# Altium schematic symbol library TinyShuffle v.0.SCHLIB: 55 symbols
Pins are listed as number, name and electrical type; pins without a type are passive.

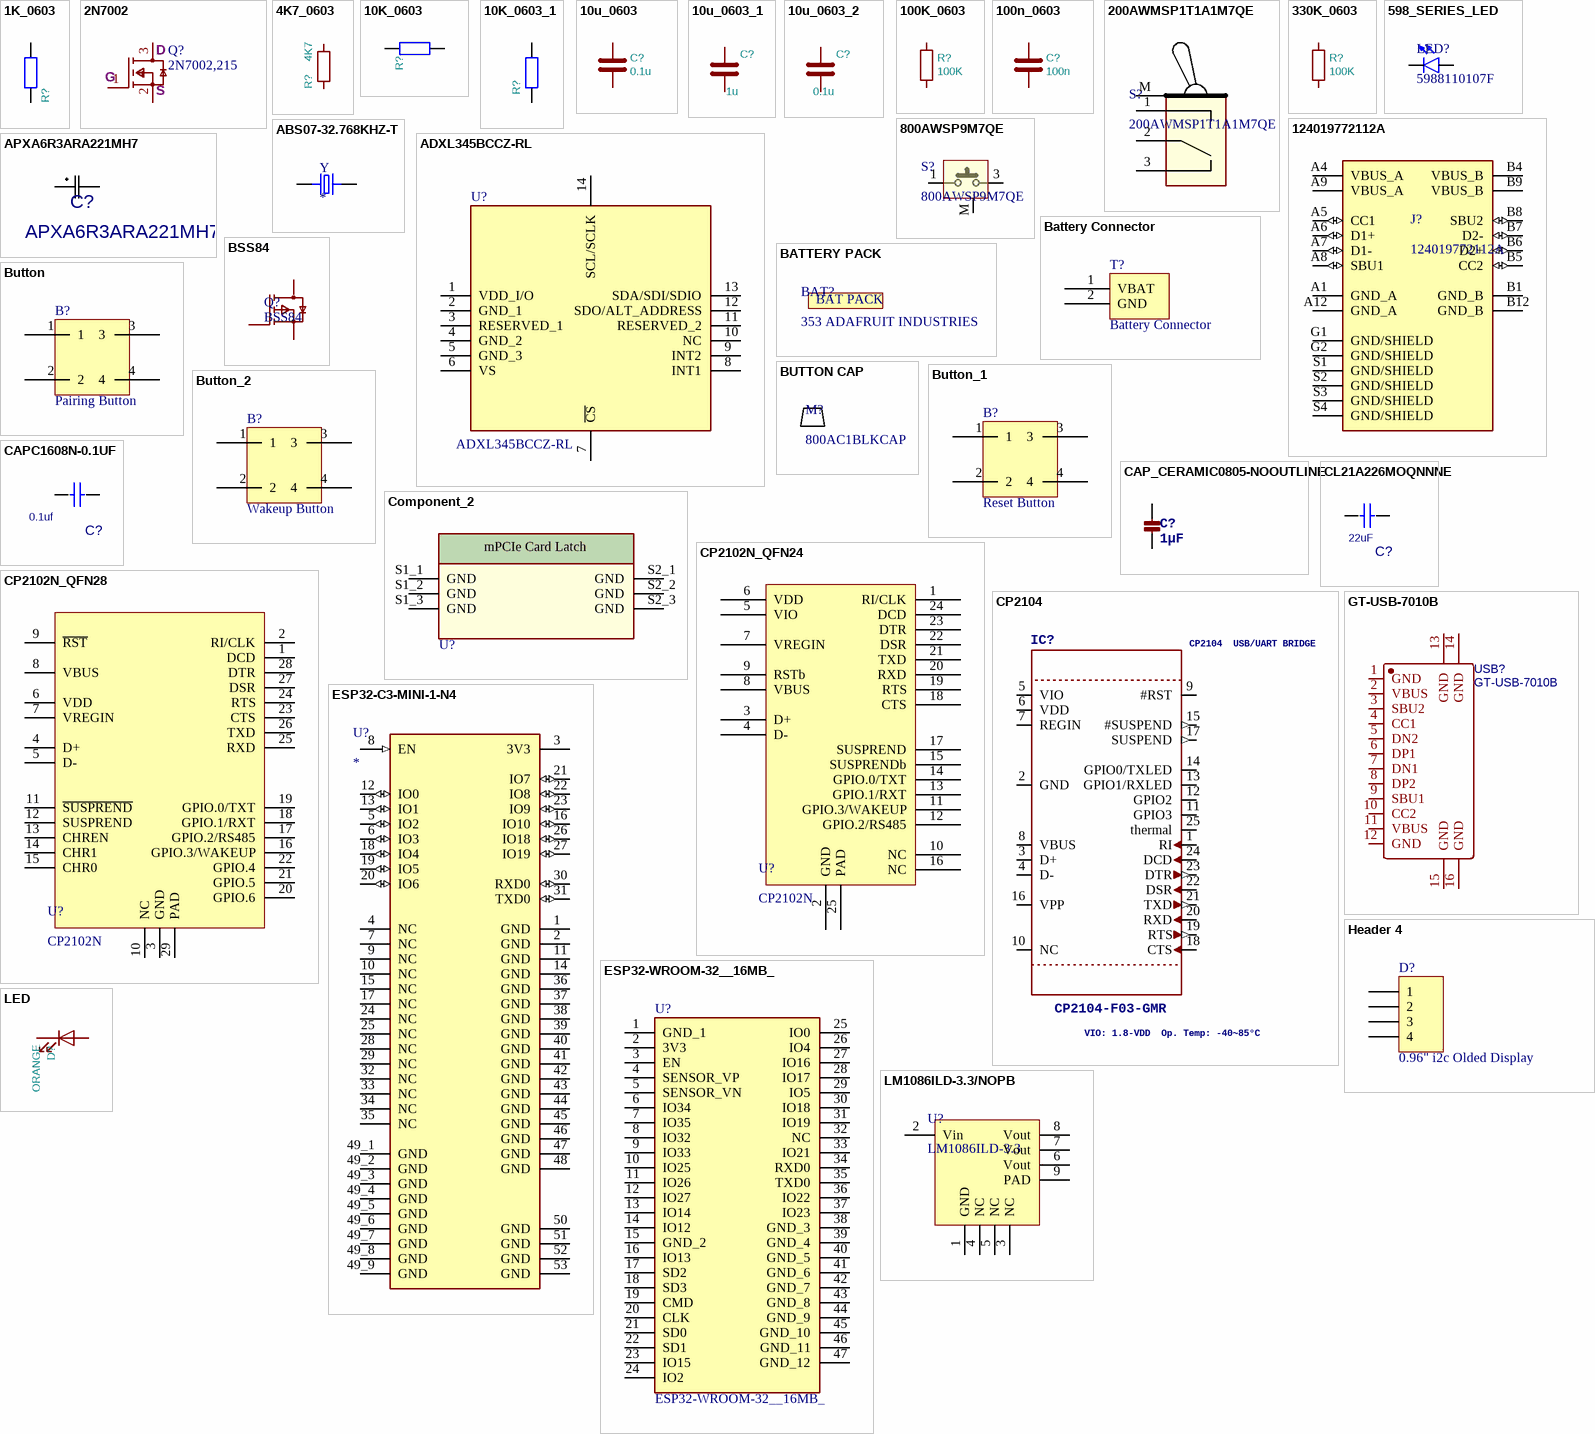
[diagram p0: symbols 1K_0603 to LM1086ILD-3.3/NOPB]

## 1K_0603
designator R?, comment 1K  (value not drawn)
Manufacturer_Part_Number: CRCW06031K00FKEAHP; Generic Part: no; Manufacturer: Vishay; Footprint: Resistor_SMD:R_0603_1608Metric; LCSC Part Number: *
footprint RES0603
pins: 1, 2

## 2N7002
designator Q?, comment 2N7002,215
footprint SOT96P237X111-3N
pins: 1 G, 2 S, 3 D1
text: D

## 4K7_0603
designator R?, comment 4K7
Part Number: CRCW06034K70FKEAHP; Generic Part: no; Manufacturer: Vishay; Footprint: Resistor_SMD:R_0603_1608Metric; Value: 4K7
footprint RES0603
pins: 1, 2

## 10K_0603
designator R?, comment 10K  (value not drawn)
Manufacturer_Part_Number: CRCW060310K0FKEAHP; Generic Part: no; Manufacturer: Vishay; Footprint: Resistor_SMD:R_0603_1608Metric; LCSC Part Number: *
footprint RES0603
pins: 1, 2

## 10K_0603_1
designator R?, comment 4k7 0603  (value not drawn)
Part Number: CRCW060310K0FKEAHP; Generic Part: no; Manufacturer: Vishay; Footprint: Resistor_SMD:R_0603_1608Metric; LCSC Part Number: *
footprint RES0603
pins: 1, 2

## 10u_0603
designator C?, comment value 0.1u  (hidden comment: 1u)
Part Number: C0603C106M9PACTU; Generic Part: no; Manufacturer: KEMET; Footprint: Capacitor_SMD:C_0603_1608Metric; LCSC Part Number: *
footprint 0603 Capacitor
pins: 1, 2

## 10u_0603_1
designator C?, comment value 1u  (hidden comment: 10u)
Part Number: C0603C106M9PACTU; Generic Part: no; Manufacturer: KEMET; Footprint: Capacitor_SMD:C_0603_1608Metric; LCSC Part Number: *
footprint 0603 Capacitor
pins: 1, 2

## 10u_0603_2
designator C?, comment value 0.1u  (hidden comment: 0.1uF)
Part Number: C0603C106M9PACTU; Generic Part: no; Manufacturer: KEMET; Footprint: Capacitor_SMD:C_0603_1608Metric; LCSC Part Number: *
footprint 0603 Capacitor
pins: 1, 2

## 100K_0603
designator R?, comment 100K
Part Number: CRCW0603100KFKEAHP; Generic Part: no; Manufacturer: Vishay; Footprint: Resistor_SMD:R_0603_1608Metric; Value: 100K
footprint RES0603
pins: 1, 2

## 100n_0603
designator C?, comment 100n
Part Number: C0603C104J5RACTU; Generic Part: no; Manufacturer: KEMET; Footprint: Capacitor_SMD:C_0603_1608Metric; LCSC Part Number: *; Value: 100n
footprint 0603 Capacitor
pins: 1, 2

## 200AWMSP1T1A1M7QE
designator S?
SWITCH TOGGLE SPDT 3A 120V
footprint 200AWMSP1T1A1M7QE (SWITCH TOGGLE SPDT 3A 120V)
pins: 1, 2, 3, M

## 330K_0603
designator R?, comment value 100K  (hidden comment: 330K)
Part Number: CRCW0603330KFKEAHP; Generic Part: no; Manufacturer: Vishay; Footprint: Resistor_SMD:R_0603_1608Metric
footprint RES0603
pins: 1, 2

## 598_SERIES_LED
designator LED?, comment 5988110107F
Red 635nm LED Indication - Discrete 2.2V 0805 _2012 Metric_; MP: 598-8110-107F; MF: Dialight; SnapEDA_Link: https://www.snapeda.com/parts/598-8110-107F/Dialight/view-part/275124/?ref=snap; Price: None; Package: 0805 Dialight; Availability: Unavailable; Value: *
footprint LEDC2012X70N
pins: A, C

## 800AWSP9M7QE
designator S?
Pushbutton Switch SPST-NO Standard Through Hole, Right Angle, Vertical
footprint 800AWSP9M7QE (SWITCH PUSH SPST-NO 1A 120V)
pins: 1, 3, M

## 124019772112A
designator J?
USB2.0, TOP MOUNT, R/A, 16 PIN, DUAL; MF: Amphenol Commercial Products; Value: *; Availability: Bad; Check_prices: https://www.snapeda.com/parts/124019772112A/Amphenol/view-part/4792123/?ref=eda; SnapEDA_Link: https://www.snapeda.com/parts/124019772112A/Amphenol/view-part/4792123/?ref=snap; Package: None; MP: 124019772112A; Price: None
footprint AMPHENOL_124019772112A
pins: A1 GND_A (power), A4 VBUS_A (power), A5 CC1 (io), A6 D1+ (io), A7 D1- (io), A8 SBU1 (io), A9 VBUS_A (power), A12 GND_A (power), B1 GND_B (power), B4 VBUS_B (power), B5 CC2 (io), B6 D2+ (io), B7 D2- (io), B8 SBU2 (io), B9 VBUS_B (power), B12 GND_B (power), G1 GND/SHIELD (power), G2 GND/SHIELD (power), S1 GND/SHIELD (power), S2 GND/SHIELD (power), S3 GND/SHIELD (power), S4 GND/SHIELD (power)

## ABS07-32.768KHZ-T
designator Y
32.768kHz Â±20ppm Crystal 12.5pF 70 kOhms 2-SMD, No Lead; MF: Abracon LLC; MP: ABS07-32.768KHZ; Price: None; Value: *; Package: SMD-2 Abracon; Availability: Unavailable; SnapEDA_Link: https://www.snapeda.com/parts/ABS07-32.768KHZ/Abracon%20LLC/view-part/448682/?ref=snap
footprint XTAL_ABS07-32.768KHZ-T
pins: 1, 2

## ADXL345BCCZ-RL
designator U?
Integrated Circuit; Manufacturer_Name: Analog Devices; Datasheet Link: https://www.analog.com/media/en/technical-documentation/data-sheets/ADXL345.pdf; Height: 1mm; Manufacturer_Part_Number: ADXL345BCCZ-RL; Mouser Part Number: 584-ADXL345BCCZ-R; Mouser Price/Stock: https://www.mouser.co.uk/ProductDetail/Analog-Devices/ADXL345BCCZ-RL?qs=WIvQP4zGangSXrz9XHbgiA%3D%3D; Arrow Part Number: ADXL345BCCZ-RL; Arrow Price/Stock: https://www.arrow.com/en/products/adxl345bccz-rl/analog-devices?region=nac
footprint ADXL345BCCZRL
pins: 1 VDD_I/O, 2 GND_1, 3 RESERVED_1, 4 GND_2, 5 GND_3, 6 VS, 7 ~{CS}, 8 INT1, 9 INT2, 10 NC, 11 RESERVED_2, 12 SDO/ALT_ADDRESS, 13 SDA/SDI/SDIO, 14 SCL/SCLK

## APXA6R3ARA221MH7
designator C?
Mfr_Name: Nippon Chemi-Con; Manufacturer_Part_Number: APXA6R3ARA221MH70G; C: Copyright (C) 2015 Accelerated Designs. All rights reserved; Copyright: Copyright (C) 2022 Ultra Librarian. All rights reserved.; Digi-Key_Part_Number_1: 565-3114-1-ND; Digi-Key_Part_Number_2: 565-3114-2-ND; Digi-Key_Part_Number_3: 565-3114-2-NDL; Digi-Key_Part_Number_4: 565-3114-6-ND; Value: APXA6R3ARA221MH7
footprint CHEMI-H70
pins: 1, 2
1 alternate drawing of the same symbol

## Battery Connector
designator T?
footprint Battery Connector
pins: 1 VBAT, 2 GND

## BATTERY PACK
designator BAT?, comment 353 ADAFRUIT INDUSTRIES  (mechanical)
18650 1S3P PATTERY, JST PH Connector
footprint 353 ADAFRUIT BAT (18650 1S3P BATTERY PACK 18X70X54)
text: BAT PACK

## BSS84
designator Q?
footprint SOT96P237X111-3N
pins: 1 G, 2 S, 3 D

## Button
designator B?, comment Pairing Button
Manufacturer_Part_Number: KMR221NGLFS; LCSC Part Number: C269272
footprint KMR221NGLFS
pins: 1, 2, 3, 4

## BUTTON CAP
designator M?, comment 800AC1BLKCAP  (mechanical)
Round Pushbutton Switch Cap Black Snap Fit
footprint BUTTON CUP (800AC1BLKCAP)

## Button_1
designator B?, comment Reset Button
Manufacturer_Part_Number: KMR221NGLFS; LCSC Part Number: C269272
footprint KMR221NGLFS
pins: 1, 2, 3, 4

## Button_2
designator B?, comment Wakeup Button
Manufacturer_Part_Number: KMR221NGLFS; LCSC Part Number: C269272
footprint KMR221NGLFS
pins: 1, 2, 3, 4

## CAP_CERAMIC0805-NOOUTLINE
designator C?, comment 1µF
Ceramic Capacitors   For new designs, use the packages preceded by an '_' character since they are more reliable:   The following footprints should be used on most boards: _0402 - Standard footprint for regular board layouts  _0603 - Standard footprint for regular board layouts  _0805 - Standard footprint for regular board layouts  _1206 - Standard footprint for regular board layouts       For extremely tight-pitch boards where space is at a premium, the following 'micro-pitch' footprints can be used (smaller pads, no silkscreen outline, etc.): _0402MP - Micro-pitch footprint for very dense/compact boards  _0603MP - Micro-pitch footprint for very dense/compact boards  _0805MP - Micro-pitch footprint for very dense/compact boards  _1206MP - Micro-pitch footprint for very dense/compact boards; COMPANY: ADAFRUIT INDUSTRIES; DRAWN: KTOWN; REV: B; LCSC Part Number: *; Manufacturer_Part_Number: *
footprint 0603 Capacitor
pins: 1, 2

## CAPC1608N-0.1UF
designator C?  value 0.1uf  (hidden comment: CAPC1608N-0.1UF)
CAP CER 0.1UF 25V X7R 0603; Manufacturer_Name: TDK Corporation; Manufacturer_Part_Number: CGA3E2X7R1E104K080AA; PCB DECAL: CAPC1608X55N; Mouser Part Number: 963-TMF212B7104KGHT; Mouser Price/Stock: https://www2.mouser.com/ProductDetail/Taiyo-Yuden/TMF212B7104KGHT?qs=%252B6g0mu59x7Jv7XISa3hIWA%3D%3D; LCSC Part Number: *
footprint 0603 Capacitor
pins: 1, 2

## CL21A226MOQNNNE
designator C?  value 22uF  (hidden comment: CL21A226MOQNNNE)
CAP CER 22UF 16V X5R 0805; Manufacturer_Name: Samsung Electro-Mechanics; Tolerance: ±20%; Manufacturer_Part_Number: CL21A226MOQNNNE; Voltage - Rated: 16V; Temperature Coefficient: X5R; Operating Temperature: -55°C ~ 85°C; Package / Case: 0805 (2012 Metric); ComponentLink1Description: Datasheet; ComponentLink1URL: https://media.digikey.com/pdf/Data%20Sheets/Samsung%20PDFs/CL21A226MOQNNNE_Spec.pdf; ComponentLink2Description: Digikey; ComponentLink2URL: https://www.digikey.com/en/products/detail/samsung-electro-mechanics/CL21A226MOQNNNE/3888567
footprint CAPC2012X135N
pins: 1, 2

## Component_2
designator U?  (value not drawn)
footprint m.2
pins: S1_1 GND (power), S1_2 GND (power), S1_3 GND (power), S2_1 GND (power), S2_2 GND (power), S2_3 GND (power)
text: mPCIe Card Latch

## CP2102N_QFN24
designator U?, comment CP2102N
IC USB TO UART BRIDGE QFN24; ManufacturerPartNumber: CP2102N-A02-GQFN24; Manufacturer: Silicon Labs
pins: 1 RI/CLK, 2 GND, 3 D+, 4 D-, 5 VIO, 6 VDD, 7 VREGIN, 8 VBUS, 9 RSTb, 10 NC, 11 GPIO.3/WAKEUP, 12 GPIO.2/RS485, 13 GPIO.1/RXT, 14 GPIO.0/TXT, 15 SUSPRENDb, 16 NC, 17 SUSPREND, 18 CTS, 19 RTS, 20 RXD, 21 TXD, 22 DSR, 23 DTR, 24 DCD, 25 PAD

## CP2102N_QFN28
designator U?, comment CP2102N
IC USB TO UART BRIDGE QFN28; ManufacturerPartNumber: CP2102N-A02-GQFN28R; Manufacturer: Silicon Labs
footprint QFN-28 (QFN, 28-Leads, Body 5,00x5,00mm, Pitch 0,50mm, Thermal Pad 3,20x3,20mm, IPC High Density)
pins: 1 DCD, 2 RI/CLK, 3 GND, 4 D+, 5 D-, 6 VDD, 7 VREGIN, 8 VBUS, 9 ~{RST}, 10 NC, 11 ~{SUSPREND}, 12 SUSPREND, 13 CHREN, 14 CHR1, 15 CHR0, 16 GPIO.3/WAKEUP, 17 GPIO.2/RS485, 18 GPIO.1/RXT, 19 GPIO.0/TXT, 20 GPIO.6, 21 GPIO.5, 22 GPIO.4, 23 CTS, 24 RTS, 25 RXD, 26 TXD, 27 DSR, 28 DTR, 29 PAD

## CP2104
designator IC?, comment CP2104-F03-GMR  CP2104
USB/UARTBRIDGE: CP2104 / USB/UART BRIDGE  VIO:1.8-VDD
Op.Temp:-40~85°C: VIO: 1.8-VDD / Op. Temp: -40~85°C
CP2104 - USB to UART Bridge    VDD Output: 3.45V; COMPANY: ADAFRUIT INDUSTRIES; DRAWN: KTOWN; REV: B; LCSC Part Number: C47742; Manufacturer_Part_Number: CP2104-F03-GMR
footprint cp2104
pins: 1 RI, 2 GND (power), 3 D+, 4 D-, 5 VIO (power), 6 VDD (power), 7 REGIN (power), 8 VBUS (power), 9 #RST, 10 NC, 11 GPIO3, 12 GPIO2, 13 GPIO1/RXLED, 14 GPIO0/TXLED, 15 #SUSPEND (out), 16 VPP, 17 SUSPEND (out), 18 CTS, 19 RTS (out), 20 RXD, 21 TXD (out), 22 DSR, 23 DTR (out), 24 DCD, 25 thermal

## ESP32-C3-MINI-1-N4
designator U?
Bluetooth, WiFi 802.11b/g/n, Bluetooth v5.0 Transceiver Module 2.412GHz ~ 2.484GHz PCB Trace Surface Mount; MF: Espressif Systems; MP: ESP32-C3-MINI-1-N4; Purchase-URL: https://pricing.snapeda.com/search/part/ESP32-C3-MINI-1-N4/?ref=eda; Value: *; Package: SMD-53 Espressif Systems; Check_prices: https://www.snapeda.com/parts/ESP32-C3-MINI-1-N4/Espressif+Systems/view-part/?ref=eda; Price: None; Availability: In Stock; SnapEDA_Link: https://www.snapeda.com/parts/ESP32-C3-MINI-1-N4/Espressif+Systems/view-part/?ref=snap
footprint XCVR_ESP32-C3-MINI-1-N4
pins: 1 GND (power), 2 GND (power), 3 3V3 (power), 4 NC, 5 IO2 (io), 6 IO3 (io), 7 NC, 8 EN (in), 9 NC, 10 NC, 11 GND (power), 12 IO0 (io), 13 IO1 (io), 14 GND (power), 15 NC, 16 IO10 (io), 17 NC, 18 IO4 (io), 19 IO5 (io), 20 IO6 (io), 21 IO7 (io), 22 IO8 (io), 23 IO9 (io), 24 NC, 25 NC, 26 IO18 (io), 27 IO19 (io), 28 NC, 29 NC, 30 RXD0 (io), 31 TXD0 (io), 32 NC, 33 NC, 34 NC, 35 NC, 36 GND (power), 37 GND (power), 38 GND (power), 39 GND (power), 40 GND (power), 41 GND (power), 42 GND (power), 43 GND (power), 44 GND (power), 45 GND (power), 46 GND (power), 47 GND (power), 48 GND (power), 49_1 GND (power), 49_2 GND (power), 49_3 GND (power), 49_4 GND (power), 49_5 GND (power), 49_6 GND (power), 49_7 GND (power), 49_8 GND (power), 49_9 GND (power), 50 GND (power), 51 GND (power), 52 GND (power), 53 GND (power)

## ESP32-WROOM-32__16MB_
designator U?
Integrated Circuit; Manufacturer_Name: Espressif Systems; Manufacturer_Part_Number: ESP32-WROOM-32 (16MB); Datasheet Link: https://www.espressif.com/sites/default/files/documentation/esp32_datasheet_en.pdf; Height: 3.2mm; Arrow Part Number: ESP32-WROOM-32 (16MB); Mouser Part Number: 356-ESPWROOM3216MB; Mouser Price/Stock: https://www.mouser.co.uk/ProductDetail/Espressif-Systems/ESP32-WROOM-32-16MB?qs=w%2Fv1CP2dgqrcPyEPuQvO1A%3D%3D; LCSC Part Number: C529578
footprint ESP32
pins: 1 GND_1, 2 3V3, 3 EN, 4 SENSOR_VP, 5 SENSOR_VN, 6 IO34, 7 IO35, 8 IO32, 9 IO33, 10 IO25, 11 IO26, 12 IO27, 13 IO14, 14 IO12, 15 GND_2, 16 IO13, 17 SD2, 18 SD3, 19 CMD, 20 CLK, 21 SD0, 22 SD1, 23 IO15, 24 IO2, 25 IO0, 26 IO4, 27 IO16, 28 IO17, 29 IO5, 30 IO18, 31 IO19, 32 NC, 33 IO21, 34 RXD0, 35 TXD0, 36 IO22, 37 IO23, 38 GND_3, 39 GND_4, 40 GND_5, 41 GND_6, 42 GND_7, 43 GND_8, 44 GND_9, 45 GND_10, 46 GND_11, 47 GND_12

## GT-USB-7010B
designator USB?
BOM_Manufacturer: G-Switch(品赞); Contributor: LCSC; BOM_Supplier: LCSC; BOM_Supplier Part: C2837092; BOM_Manufacturer Part: GT-USB-7010B; BOM_JLCPCB Part Class: Extended Part; spicePre: U; spiceSymbolName: GT-USB-7010B
footprint type c
pins: 1 GND, 2 VBUS, 3 SBU2, 4 CC1, 5 DN2, 6 DP1, 7 DN1, 8 DP2, 9 SBU1, 10 CC2, 11 VBUS, 12 GND, 13 GND, 14 GND, 15 GND, 16 GND

## Header 4
designator D?, comment 0.96" i2c Olded Display
Header, 4-Pin; LatestRevisionDate: 17-Jul-2002; LatestRevisionNote: Re-released for DXP Platform.; Publisher: Altium Limited
footprint i2c display
pins: 1, 2, 3, 4

## LED
designator D?, comment ORANGE
Generic Part: yes; Manufacturer: Kingbright; Manufacturer_Part_Number: APT1608SECK; Footprint: LED_SMD:LED_0603_1608Metric; LCSC Part Number: *; Value: ORANGE
footprint LED
pins: 1 K, 2 A

## LM1086ILD-3.3/NOPB
designator U?, comment LM1086ILD-3.3
IC REG LINEAR 3.3V 1.5A 8WSON; ManufacturerPartNumber: LM1086ILD-3.3/NOPB; Manufacturer: Texas Instruments
pins: 1 GND, 2 Vin, 3 NC, 4 NC, 5 NC, 6 Vout, 7 Vout, 8 Vout, 9 PAD

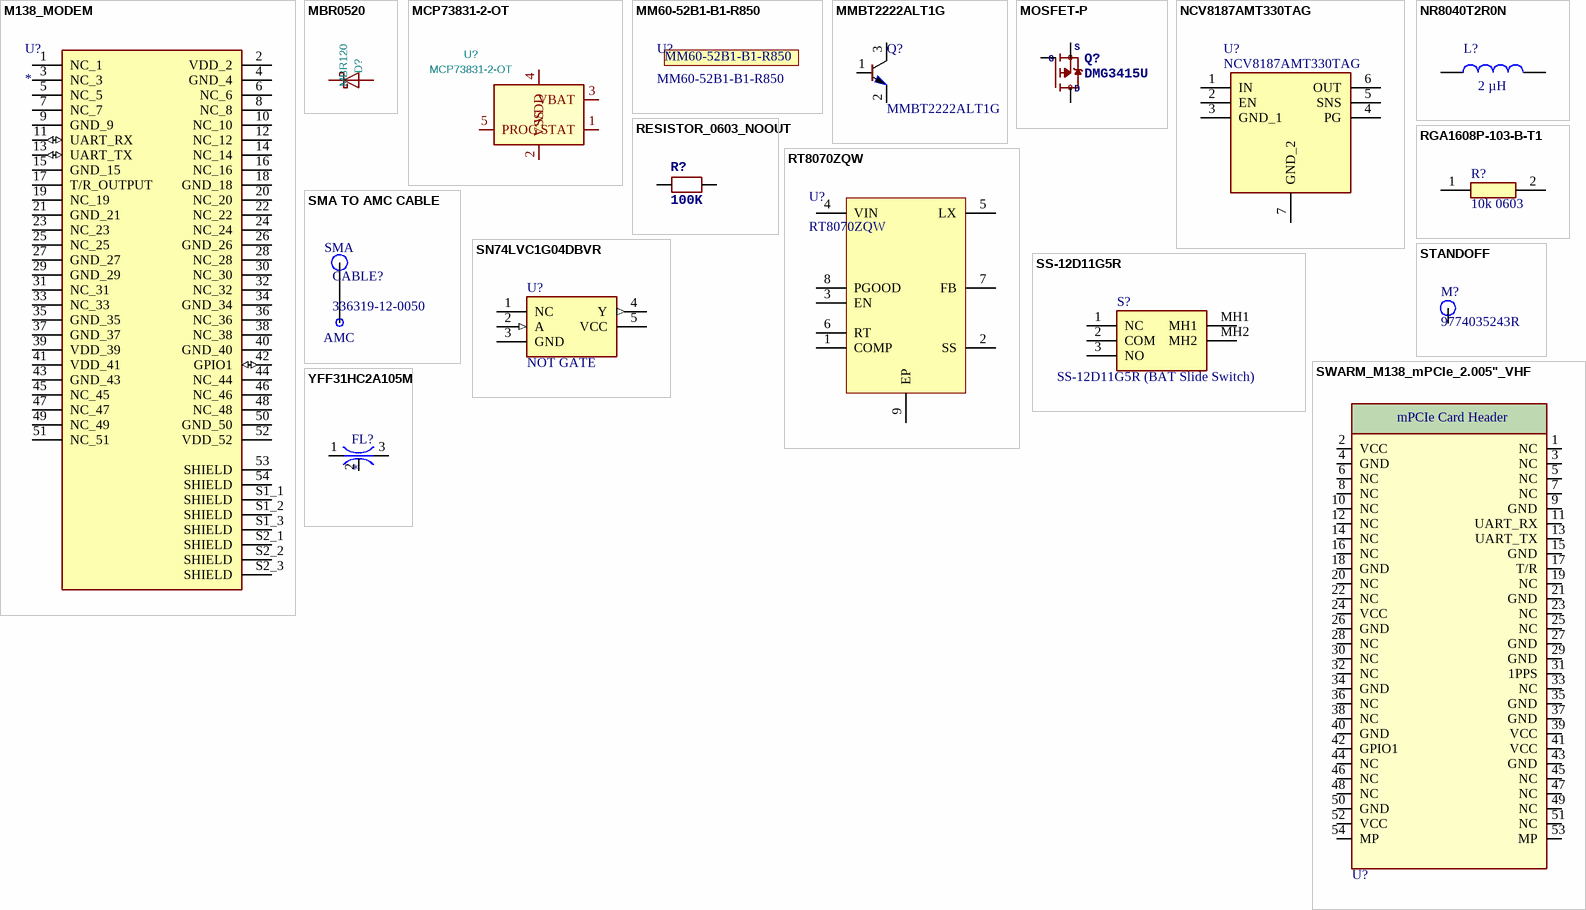
[diagram p1: symbols M138_MODEM to YFF31HC2A105M]

## M138_MODEM
designator U?
Swarm M138 Modem; MF: Swarm; Check_prices: https://www.snapeda.com/parts/M138%20Modem/Swarm/view-part/?ref=eda; Value: *; Package: Package; Price: None; Availability: Not in stock; MP: M138 Modem; SnapEDA_Link: https://www.snapeda.com/parts/M138%20Modem/Swarm/view-part/?ref=snap
footprint XCVR_M138_MODEM
pins: 1 NC_1, 2 VDD_2 (power), 3 NC_3, 4 GND_4 (power), 5 NC_5, 6 NC_6, 7 NC_7, 8 NC_8, 9 GND_9 (power), 10 NC_10, 11 UART_RX (io), 12 NC_12, 13 UART_TX (io), 14 NC_14, 15 GND_15 (power), 16 NC_16, 17 T/R_OUTPUT, 18 GND_18 (power), 19 NC_19, 20 NC_20, 21 GND_21 (power), 22 NC_22, 23 NC_23, 24 NC_24, 25 NC_25, 26 GND_26 (power), 27 GND_27 (power), 28 NC_28, 29 GND_29 (power), 30 NC_30, 31 NC_31, 32 NC_32, 33 NC_33, 34 GND_34 (power), 35 GND_35 (power), 36 NC_36, 37 GND_37 (power), 38 NC_38, 39 VDD_39 (power), 40 GND_40 (power), 41 VDD_41 (power), 42 GPIO1 (io), 43 GND_43 (power), 44 NC_44, 45 NC_45, 46 NC_46, 47 NC_47, 48 NC_48, 49 NC_49, 50 GND_50 (power), 51 NC_51, 52 VDD_52 (power), 53 SHIELD, 54 SHIELD, S1_1 SHIELD, S1_2 SHIELD, S1_3 SHIELD, S2_1 SHIELD, S2_2 SHIELD, S2_3 SHIELD

## MBR0520
designator D?, comment MBR120
Manufacturer_Part_Number: LMBR120FT1G; Generic Part: no; Manufacturer: ON; Footprint: Diode_SMD:D_SOD-123; LCSC Part Number: C81143; Value: MBR120
footprint SODFL3616X98N
pins: 1 K, 2 A

## MCP73831-2-OT
designator U?
Manufacturer_Part_Number: MCP73831T-2ACI/OT; Generic Part: no; Manufacturer: Microchip Technology; Footprint: Package_TO_SOT_SMD:SOT-23-5; LCSC Part Number: *; Value: MCP73831-2-OT
footprint SOT95P270X145-5N
pins: 1 STAT, 2 VSS, 3 VBAT, 4 VDD, 5 PROG

## MM60-52B1-B1-R850
designator U?
52 Position Female Connector PCI Express Mini Card Gold 0.031" (0.80mm) - FOR MODEM

## MMBT2222ALT1G
designator Q?
Integrated Circuit; Manufacturer_Name: ON Semiconductor; Datasheet Link: http://www.onsemi.com/pub/Collateral/MMBT2222LT1-D.PDF; Height: 1.11mm; Manufacturer_Part_Number: MMBT2222ALT1G; Arrow Part Number: MMBT2222ALT1G; Arrow Price/Stock: https://www.arrow.com/en/products/mmbt2222alt1g/on-semiconductor; Mouser Part Number: 863-MMBT2222ALT1G; Mouser Price/Stock: https://www.mouser.co.uk/ProductDetail/ON-Semiconductor/MMBT2222ALT1G?qs=HVbQlW5zcXWwnD7Jokybqg%3D%3D; LCSC Part Number: C82460
footprint SOT96P237X111-3N
pins: 1 B, 2 E, 3 C

## MOSFET-P
designator Q?, comment DMG3415U
P-Channel Mosfet   LEGEND   VDS: Voltage Drain-Source ID: Drain Current RDS(ON): Drain-Source On-State Resistance VGS(TH): Gate-Source Threshold Voltage CISS: Drain-Source Input Capacitance    SOT-23   Name	VDS	ID	RDS(ON)	VGS(TH)	CISS	Order Number	   IRLML5103	30V	760mA	600 mOhm	--	75pF @ 25V	Digikey: IRLML5103PBFCT-ND	   IRLML6401	12V	4.3A	50 mOhm	950mV @ 250µA	830pF @ 10V	Digikey: IRLML6401PBFTR-ND	   NTR0202PL	20V	400mA	800 mOhm	2.3V @ 250uA	70pF @ 5V	Digikey: NTR0202PLT1GOSTR-ND	   NTR4101PT1G	20V	1.8A	85 mOhm	1.2V @ 250uA	675pF @ 10V	Digikey: NTR4101PT1GOSCT-ND	   DMP2004K	20V	600mA	900 mOhm	1V @ 250uA	175pF @ 16V	Digikey: DMP2004KDICT-ND	   PMV65XP	20V	3.9A	76 mOhm	950mV @ 1mA	725pF @ 20V	Digikey: 568-2358-2-ND	   							   							TO-252   Name	VDS	ID	RDS(ON)	VGS(TH)	CISS	Order Number	   AOD417	30V	25A	34 mOhm	3V @ 250µA	920pF @ 15V	Digikey: 785-1106-2-ND	PowerPak   Name	VDS	ID	RDS(ON)	VGS(TH)	CISS	Order Number	   AON7401	30V	12A	14 mOhm	3V @ 250µA	2600pF @ 15V	Digikey: 785-1302-1-ND; Manufacturer_Part_Number: DMG3415U-7; COMPANY: ADAFRUIT INDUSTRIES; DRAWN: KTOWN; REV: B; LCSC Part Number: C709946; D: D; S: S; G: G
footprint SOT96P237X111-3N
pins: 1 G, 2 S, 3 D

## NCV8187AMT330TAG
designator U?
Integrated Circuit; Manufacturer_Name: ON Semiconductor; Datasheet Link: https://www.onsemi.com/pdf/datasheet/ncv8187-d.pdf; Height: 0.8mm; Manufacturer_Part_Number: NCV8187AMT330TAG; Mouser Part Number: 863-NCV8187AMT330TAG; Mouser Price/Stock: https://www.mouser.co.uk/ProductDetail/onsemi/NCV8187AMT330TAG?qs=%252B6g0mu59x7JkSKBMOiGIwA%3D%3D; Arrow Part Number: NCV8187AMT330TAG; Arrow Price/Stock: https://www.arrow.com/en/products/ncv8187amt330tag/on-semiconductor?region=nac
footprint SON65P200X200X80-7N
pins: 1 IN, 2 EN, 3 GND_1, 4 PG, 5 SNS, 6 OUT, 7 GND_2

## NR8040T2R0N
designator L?, comment 2 µH
FIXED IND 2UH 6.3A 11.7 MOHM SMD; MPN: NR8040T2R0N; Manufacturer: Taiyo Yuden; Material: Drum Core, Wirewound; ComponentLink1Description: Digikey; ComponentLink1URL: https://www.digikey.com/en/products/detail/taiyo-yuden/NR8040T2R0N/1739079; ComponentLink2Description: Datasheet; ComponentLink2URL: https://www.yuden.co.jp/productdata/catalog/wound04_e.pdf; Mounting Technology: SMT; Operating Temperature: -50 to +100degC; Packaging: Tape and Reel; DC Resistance max.: 11.7mOhm; Rated Current: 6.3 A; Inductance: 2 µH; Height: 4.0mm; Length: 8.0mm; Width: 8.0mm
footprint INDC8080X42L (Chip Inductor, 2-Leads, Body 8,00x8,00mm, IPC High Density)
pins: 1, 2

## RESISTOR_0603_NOOUT
designator R?, comment 100K
Resistors   For new designs, use the packages preceded by an '_' character since they are more reliable:   The following footprints should be used on most boards: _0402 - Standard footprint for regular board layouts  _0603 - Standard footprint for regular board layouts  _0805 - Standard footprint for regular board layouts  _1206 - Standard footprint for regular board layouts       For extremely tight-pitch boards where space is at a premium, the following 'micro-pitch' footprints can be used (smaller pads, no silkscreen outline, etc.): _0402MP - Micro-pitch footprint for very dense/compact boards  _0603MP - Micro-pitch footprint for very dense/compact boards  _0805MP - Micro-pitch footprint for very dense/compact boards  _1206MP - Micro-pitch footprint for very dense/compact boards; COMPANY: ADAFRUIT INDUSTRIES; DRAWN: KTOWN; REV: B; LCSC Part Number: *; Manufacturer_Part_Number: *
footprint RES0603
pins: 1, 2

## RGA1608P-103-B-T1
designator R?, comment 10k 0603
Resistor; Manufacturer_Name: Susumu; Manufacturer_Part_Number: RGA1608P-103-B-T1; Datasheet Link: https://componentsearchengine.com/Datasheets/1/RGA1608P-103-B-T1.pdf; Height: 0.55mm; Arrow Part Number: RGA1608P-103-B-T1; Mouser Part Number: 754-RGA1608P-103BT1; Mouser Price/Stock: https://www.mouser.co.uk/ProductDetail/Susumu/RGA1608P-103-B-T1?qs=bZr6mbWTK5mMUuFD5Afdcw%3D%3D; LCSC Part Number: *
footprint RES0603
pins: 1, 2

## RT8070ZQW
designator U?
IC REG BUCK ADJUSTABLE 4A 8WDFN; Manufacturer: Richtek USA Inc.; Voltage - Input (Min): 2.7V; Voltage - Input (Max): 5.5V; Voltage - Output (Min/Fixed): 0.8V; Voltage - Output (Max): 5V; Frequency - Switching: 200kHz ~ 2MHz; ComponentLink1Description: Datasheet; ComponentLink1URL: https://www.richtek.com/assets/product_file/RT8070/DS8070-09.pdf; ComponentLink2Description: Digikey; ComponentLink2URL: https://www.digikey.com/en/products/detail/richtek-usa-inc/RT8070ZQW/3078331; MPN: RT8070ZQW; Current - Output: 4A; Package / Case: 8-WDFN Exposed Pad
footprint QFN65P300X300X80_HS-9L (QFN, 8-Leads, Body 3,00x3,00mm, Pitch 0,65mm, Thermal Pad 2,23x1,48mm, IPC High Density)
pins: 1 COMP, 2 SS, 3 EN, 4 VIN, 5 LX, 6 RT, 7 FB, 8 PGOOD, 9 EP

## SMA TO AMC CABLE
designator CABLE?, comment 336319-12-0050
Cable Assembly Coaxial U.FL (UMCC), AMC to SMA 1.13mm OD Coaxial Cable 1.969" (50.00mm)
footprint SMA (SMA CONNECTOR)
text: SMA; AMC

## SN74LVC1G04DBVR
designator U?, comment NOT GATE
Integrated Circuit; Manufacturer_Name: Texas Instruments; Manufacturer_Part_Number: SN74LVC1G04DBVR; Datasheet Link: http://www.ti.com/lit/gpn/sn74lvc1g04; Height: 1.45mm; Arrow Part Number: SN74LVC1G04DBVR; Arrow Price/Stock: https://www.arrow.com/en/products/sn74lvc1g04dbvr/texas-instruments; Mouser Part Number: 595-SN74LVC1G04DBVR; Mouser Price/Stock: https://www.mouser.co.uk/ProductDetail/Texas-Instruments/SN74LVC1G04DBVR?qs=AMJt07B76utiScZvQx5a7w%3D%3D; LCSC Part Number: C7827
footprint SOT95P270X145-5N
pins: 1 NC, 2 A (in), 3 GND (power), 4 Y (out), 5 VCC (power)

## SS-12D11G5R
designator S?, comment SS-12D11G5R (BAT Slide Switch)
Switch; Manufacturer_Name: XKB Connectivity; Datasheet Link: http://www.helloxkb.com/public/images/pdf/SS-12D11G5R-.pdf; Height: 6.8mm; Manufacturer_Part_Number: SS-12D11G5R; LCSC Part Number: *
footprint SS12D11G5R
pins: 1 NC, 2 COM, 3 NO, MH1, MH2

## STANDOFF
designator M?, comment 9774035243R
RND STANDOFF M2X0.4 STEEL 3.5MM
footprint 9774035243R (RND STANDOFF M2X0.4 STEEL 3.5MM)
pins: M

## SWARM_M138_mPCIe_2.005"_VHF
designator U?  (value not drawn)
SWARM M138 MODEM mPCIe 2.005" (50.925mm) x 1.18" (30mm)  Two part connector; MANUF1: JAE; SPECIAL_INSTRUCTIONS: A: MM60-52B1-B1-R850 B: MM60-EZH039-B5-R850; TEMP: -40°C ~ 85°C; Size: mPCIe; Supplier: Digikey; Supplier P/N: A: 670-2274-2-ND B: 670-2276-2-ND; Type: CONN; MANUF1 P/N: A: MM60-52B1-B1-R850 B: MM60-EZH039-B5-R850
footprint RF_VHF_JAE_MM60-52B1-B1-R850_MM60-EZH039-B5-R850_w_2005_mPCIe_card
pins: 1 NC (oc), 2 VCC (power), 3 NC, 4 GND (power), 5 NC, 6 NC, 7 NC (oc), 8 NC, 9 GND (power), 10 NC, 11 UART_RX, 12 NC, 13 UART_TX, 14 NC, 15 GND (power), 16 NC, 17 T/R, 18 GND (power), 19 NC, 20 NC, 21 GND (power), 22 NC, 23 NC, 24 VCC, 25 NC, 26 GND (power), 27 GND (power), 28 NC, 29 GND (power), 30 NC, 31 1PPS, 32 NC, 33 NC, 34 GND (power), 35 GND (power), 36 NC, 37 GND (power), 38 NC, 39 VCC (power), 40 GND (power), 41 VCC (power), 42 GPIO1, 43 GND (power), 44 NC, 45 NC, 46 NC, 47 NC, 48 NC, 49 NC, 50 GND (power), 51 NC, 52 VCC (power), 53 MP (power), 54 MP (power)
1 alternate drawing of the same symbol
text: mPCIe Card Header

## YFF31HC2A105M
designator FL?
1ÂµF Feed Through Capacitor 100V 6A 5mOhm 1206 (3216 Metric), 4 PC Pad; MP: YFF31HC2A105M; MF: TDK; Package: 0402 TDK; SnapEDA_Link: https://www.snapeda.com/parts/YFF31HC2A105M/TDK/view-part/566442/?ref=snap; Value: *; Check_prices: https://www.snapeda.com/parts/YFF31HC2A105M/TDK/view-part/566442/?ref=eda; Purchase-URL: https://pricing.snapeda.com/search/part/YFF31HC2A105M/?ref=eda; Digi-Key_Part_Number: 445-16151-1-ND
footprint FIL_YFF31HC2A105M
pins: 1 IN/OUT, 2, 3 OUT/IN